# EAGLE library part TMS9118 (library TMS99)
TMS9118
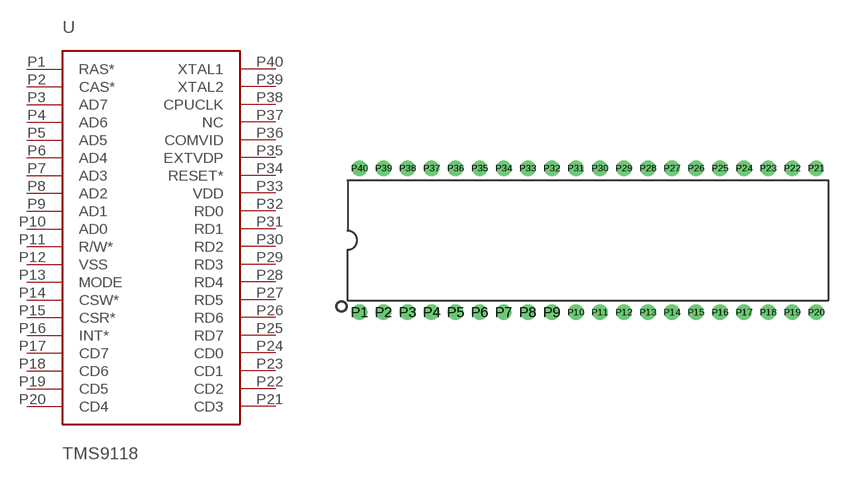
[diagram p5: symbol with the pads of DIP40_MCU; footprint DIP40_MCU]

Designator prefix U

## TMS9118  [DIP40_MCU]
P1  RAS*
P2  CAS*
P3  AD7
P4  AD6
P5  AD5
P6  AD4
P7  AD3
P8  AD2
P9  AD1
P10  AD0
P11  R/W*
P12  VSS
P13  MODE
P14  CSW*
P15  CSR*
P16  INT*
P17  CD7
P18  CD6
P19  CD5
P20  CD4
P21  CD3
P22  CD2
P23  CD1
P24  CD0
P25  RD7
P26  RD6
P27  RD5
P28  RD4
P29  RD3
P30  RD2
P31  RD1
P32  RD0
P33  VDD
P34  RESET*
P35  EXTVDP
P36  COMVID
P37  NC
P38  CPUCLK
P39  XTAL2
P40  XTAL1

## Footprint DIP40_MCU (pad centres in mm)
Dual In Line Package: 40-pin PDIP
drill 0.813 pad 1.626: P1 -24.13,-7.62; P2 -21.59,-7.62; P3 -19.05,-7.62; P4 -16.51,-7.62; P5 -13.97,-7.62; P6 -11.43,-7.62; P7 -8.89,-7.62; P8 -6.35,-7.62; P9 -3.81,-7.62; P10 -1.27,-7.62; P11 1.27,-7.62; P12 3.81,-7.62; P13 6.35,-7.62; P14 8.89,-7.62; P15 11.43,-7.62; P16 13.97,-7.62; P17 16.51,-7.62; P18 19.05,-7.62; P19 21.59,-7.62; P20 24.13,-7.62; P21 24.13,7.62; P22 21.59,7.62; P23 19.05,7.62; P24 16.51,7.62; P25 13.97,7.62; P26 11.43,7.62; P27 8.89,7.62; P28 6.35,7.62; P29 3.81,7.62; P30 1.27,7.62; P31 -1.27,7.62; P32 -3.81,7.62; P33 -6.35,7.62; P34 -8.89,7.62; P35 -11.43,7.62; P36 -13.97,7.62; P37 -16.51,7.62; P38 -19.05,7.62; P39 -21.59,7.62; P40 -24.13,7.62